# EAGLE library part FSA4157AP6X (library FoneAstra3.2)
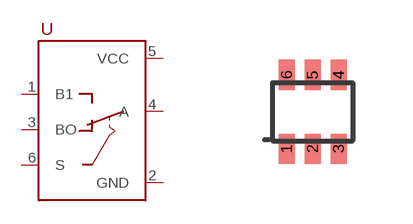
[diagram p10: symbol with the pads of SC70-6; footprint SC70-6]

Designator prefix -

## FSA4157AP6X  [SC70-6]
1  B1  pas
2  GND
3  BO  pas
4  A  pas
5  VCC  pwr
6  S

## Footprint SC70-6 (pad centres in mm)
smd 0.4 x 0.75: 1 -0.65,-0.925; 2 0,-0.925; 3 0.65,-0.925; 4 0.65,0.925; 5 0,0.925; 6 -0.65,0.925